# EAGLE library part 104259-0810 (library 1042490810 - Board to Board Connector, 8p - Receptable)
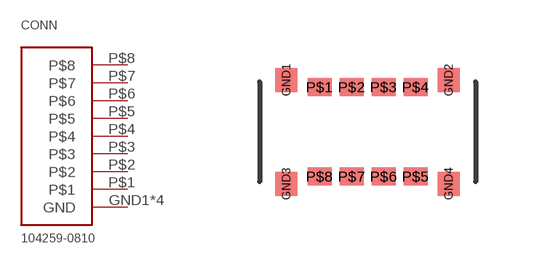
[diagram p0: symbol with the pads of SMD; footprint SMD]

Designator prefix CONN

## 104259-0810  [SMD]
GND1  GND
GND2  GND
GND3  GND
GND4  GND
P$1  P$1
P$2  P$2
P$3  P$3
P$4  P$4
P$5  P$5
P$6  P$6
P$7  P$7
P$8  P$8

## Footprint SMD (pad centres in mm)
smd 0.55 x 0.6: GND1 -2.03,1.3; GND2 2.03,1.3; GND3 -2.03,-1.3; GND4 2.03,-1.3
smd 0.6 x 0.45: P$1 -1.2,1.12; P$2 -0.4,1.12; P$3 0.4,1.12; P$4 1.2,1.12; P$5 1.2,-1.12; P$6 0.4,-1.12; P$7 -0.4,-1.12; P$8 -1.2,-1.12